# Altium footprint library micrel.PCBLIB: 2 footprints
Each footprint in its own frame and in the unit in brackets; x right, y up, seen from the top. Pads: shape width x height; smd on the part's side, far side on the other; paste and mask are expansions set on the pad; w line width, h text height; cw(c..) or ccw(c..) is an arc to the next point about the centre after c.
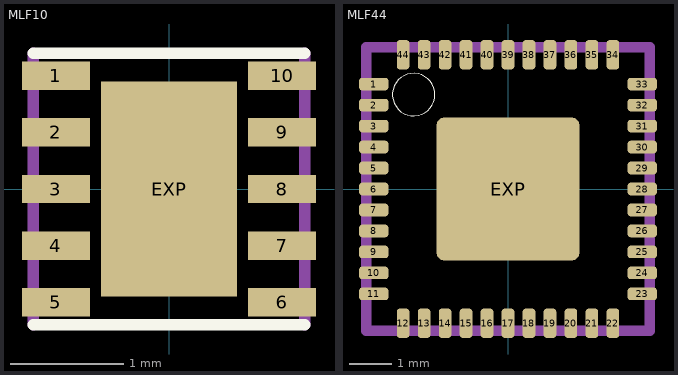
[diagram p0: the footprints below, top view; thin cyan lines are the x and y axes]

## MLF10 [mm]
pads (11):
  rect 0.6x0.25 smd: 1(-1,1) 2(-1,0.5) 3(-1,0) 4(-1,-0.5) 5(-1,-1) 6(1,-1) 7(1,-0.5) 8(1,0) 9(1,0.5) 10(1,1)
  rect 1.2x1.9 smd: EXP(0,0)
Top Overlay:
  lines w0.102: -1.2,-1.2 1.2,-1.2 ; -1.2,1.2 1.2,1.2
Top Paste:
  rectangle: -1.275,0.9 -0.725,1.1
  rectangle: -1.275,0.4 -0.725,0.6
  rectangle: -1.275,-0.1 -0.725,0.1
  rectangle: -1.275,-0.6 -0.725,-0.4
  rectangle: -1.275,-1.1 -0.725,-0.9
  region: 1.275,-0.9 0.725,-0.9 0.725,-1.1 1.275,-1.1
  region: 1.275,-0.4 0.725,-0.4 0.725,-0.6 1.275,-0.6
  region: 1.275,0.1 0.725,0.1 0.725,-0.1 1.275,-0.1
  region: 1.275,0.6 0.725,0.6 0.725,0.4 1.275,0.4
  region: 1.275,1.1 0.725,1.1 0.725,0.9 1.275,0.9
  rectangle: -0.525,-0.875 0.525,0.875
Top Solder:
  rectangle: -1.325,0.85 -0.675,1.15
  rectangle: -1.325,0.35 -0.675,0.65
  rectangle: -1.325,-0.15 -0.675,0.15
  rectangle: -1.325,-0.65 -0.675,-0.35
  rectangle: -1.325,-1.15 -0.675,-0.85
  region: 1.325,-0.85 0.675,-0.85 0.675,-1.15 1.325,-1.15
  region: 1.325,-0.35 0.675,-0.35 0.675,-0.65 1.325,-0.65
  region: 1.325,0.15 0.675,0.15 0.675,-0.15 1.325,-0.15
  region: 1.325,0.65 0.675,0.65 0.675,0.35 1.325,0.35
  region: 1.325,1.15 0.675,1.15 0.675,0.85 1.325,0.85
  rectangle: -0.625,-0.975 0.625,0.975
Mechanical 16:
  lines w0.102: -1.2,-1.2 -1.2,1.2 ; 1.2,-1.2 1.2,1.2

## MLF44 [mm]
pads (45):
  rrect50% 0.7x0.3 smd: 1(-3.2,2.5) 2(-3.2,2) 3(-3.2,1.5) 4(-3.2,1) 5(-3.2,0.5) 6(-3.2,0) 7(-3.2,-0.5) 8(-3.2,-1) 9(-3.2,-1.5) 10(-3.2,-2) 11(-3.2,-2.5) 23(3.2,-2.5) 24(3.2,-2) 25(3.2,-1.5) 26(3.2,-1) 27(3.2,-0.5) 28(3.2,0) 29(3.2,0.5) 30(3.2,1) 31(3.2,1.5) 32(3.2,2) 33(3.2,2.5)
  rrect50% 0.3x0.7 smd: 12(-2.5,-3.2) 13(-2,-3.2) 14(-1.5,-3.2) 15(-1,-3.2) 16(-0.5,-3.2) 17(0,-3.2) 18(0.5,-3.2) 19(1,-3.2) 20(1.5,-3.2) 21(2,-3.2) 22(2.5,-3.2) 34(2.5,3.2) 35(2,3.2) 36(1.5,3.2) 37(1,3.2) 38(0.5,3.2) 39(0,3.2) 40(-0.5,3.2) 41(-1,3.2) 42(-1.5,3.2) 43(-2,3.2) 44(-2.5,3.2)
  rrect10% 3.4x3.4 smd: EXP(0,0)
Top Overlay:
  circle w0: c-2.25,2.25 r0.505
Top Paste:
  rectangle: -3.525,2.375 -2.875,2.625
  rectangle: -3.525,1.875 -2.875,2.125
  rectangle: -3.525,1.375 -2.875,1.625
  rectangle: -3.525,0.875 -2.875,1.125
  rectangle: -3.525,0.375 -2.875,0.625
  rectangle: -3.525,-0.125 -2.875,0.125
  rectangle: -3.525,-0.625 -2.875,-0.375
  rectangle: -3.525,-1.125 -2.875,-0.875
  rectangle: -3.525,-1.625 -2.875,-1.375
  rectangle: -3.525,-2.125 -2.875,-1.875
  rectangle: -3.525,-2.625 -2.875,-2.375
  region: -2.375,-3.525 -2.375,-2.875 -2.625,-2.875 -2.625,-3.525
  region: -1.875,-3.525 -1.875,-2.875 -2.125,-2.875 -2.125,-3.525
  region: -1.375,-3.525 -1.375,-2.875 -1.625,-2.875 -1.625,-3.525
  region: -0.875,-3.525 -0.875,-2.875 -1.125,-2.875 -1.125,-3.525
  region: -0.375,-3.525 -0.375,-2.875 -0.625,-2.875 -0.625,-3.525
  region: 0.125,-3.525 0.125,-2.875 -0.125,-2.875 -0.125,-3.525
  region: 0.625,-3.525 0.625,-2.875 0.375,-2.875 0.375,-3.525
  region: 1.125,-3.525 1.125,-2.875 0.875,-2.875 0.875,-3.525
  region: 1.625,-3.525 1.625,-2.875 1.375,-2.875 1.375,-3.525
  region: 2.125,-3.525 2.125,-2.875 1.875,-2.875 1.875,-3.525
  region: 2.625,-3.525 2.625,-2.875 2.375,-2.875 2.375,-3.525
  region: 3.525,-2.375 2.875,-2.375 2.875,-2.625 3.525,-2.625
  region: 3.525,-1.875 2.875,-1.875 2.875,-2.125 3.525,-2.125
  region: 3.525,-1.375 2.875,-1.375 2.875,-1.625 3.525,-1.625
  region: 3.525,-0.875 2.875,-0.875 2.875,-1.125 3.525,-1.125
  region: 3.525,-0.375 2.875,-0.375 2.875,-0.625 3.525,-0.625
  region: 3.525,0.125 2.875,0.125 2.875,-0.125 3.525,-0.125
  region: 3.525,0.625 2.875,0.625 2.875,0.375 3.525,0.375
  region: 3.525,1.125 2.875,1.125 2.875,0.875 3.525,0.875
  region: 3.525,1.625 2.875,1.625 2.875,1.375 3.525,1.375
  region: 3.525,2.125 2.875,2.125 2.875,1.875 3.525,1.875
  region: 3.525,2.625 2.875,2.625 2.875,2.375 3.525,2.375
  region: 2.375,3.525 2.375,2.875 2.625,2.875 2.625,3.525
  region: 1.875,3.525 1.875,2.875 2.125,2.875 2.125,3.525
  region: 1.375,3.525 1.375,2.875 1.625,2.875 1.625,3.525
  region: 0.875,3.525 0.875,2.875 1.125,2.875 1.125,3.525
  region: 0.375,3.525 0.375,2.875 0.625,2.875 0.625,3.525
  region: -0.125,3.525 -0.125,2.875 0.125,2.875 0.125,3.525
  region: -0.625,3.525 -0.625,2.875 -0.375,2.875 -0.375,3.525
  region: -1.125,3.525 -1.125,2.875 -0.875,2.875 -0.875,3.525
  region: -1.625,3.525 -1.625,2.875 -1.375,2.875 -1.375,3.525
  region: -2.125,3.525 -2.125,2.875 -1.875,2.875 -1.875,3.525
  region: -2.625,3.525 -2.625,2.875 -2.375,2.875 -2.375,3.525
  rectangle: -1.375,-1.375 1.375,1.375
Top Solder:
  rectangle: -3.575,2.325 -2.825,2.675
  rectangle: -3.575,1.825 -2.825,2.175
  rectangle: -3.575,1.325 -2.825,1.675
  rectangle: -3.575,0.825 -2.825,1.175
  rectangle: -3.575,0.325 -2.825,0.675
  rectangle: -3.575,-0.175 -2.825,0.175
  rectangle: -3.575,-0.675 -2.825,-0.325
  rectangle: -3.575,-1.175 -2.825,-0.825
  rectangle: -3.575,-1.675 -2.825,-1.325
  rectangle: -3.575,-2.175 -2.825,-1.825
  rectangle: -3.575,-2.675 -2.825,-2.325
  region: -2.325,-3.575 -2.325,-2.825 -2.675,-2.825 -2.675,-3.575
  region: -1.825,-3.575 -1.825,-2.825 -2.175,-2.825 -2.175,-3.575
  region: -1.325,-3.575 -1.325,-2.825 -1.675,-2.825 -1.675,-3.575
  region: -0.825,-3.575 -0.825,-2.825 -1.175,-2.825 -1.175,-3.575
  region: -0.325,-3.575 -0.325,-2.825 -0.675,-2.825 -0.675,-3.575
  region: 0.175,-3.575 0.175,-2.825 -0.175,-2.825 -0.175,-3.575
  region: 0.675,-3.575 0.675,-2.825 0.325,-2.825 0.325,-3.575
  region: 1.175,-3.575 1.175,-2.825 0.825,-2.825 0.825,-3.575
  region: 1.675,-3.575 1.675,-2.825 1.325,-2.825 1.325,-3.575
  region: 2.175,-3.575 2.175,-2.825 1.825,-2.825 1.825,-3.575
  region: 2.675,-3.575 2.675,-2.825 2.325,-2.825 2.325,-3.575
  region: 3.575,-2.325 2.825,-2.325 2.825,-2.675 3.575,-2.675
  region: 3.575,-1.825 2.825,-1.825 2.825,-2.175 3.575,-2.175
  region: 3.575,-1.325 2.825,-1.325 2.825,-1.675 3.575,-1.675
  region: 3.575,-0.825 2.825,-0.825 2.825,-1.175 3.575,-1.175
  region: 3.575,-0.325 2.825,-0.325 2.825,-0.675 3.575,-0.675
  region: 3.575,0.175 2.825,0.175 2.825,-0.175 3.575,-0.175
  region: 3.575,0.675 2.825,0.675 2.825,0.325 3.575,0.325
  region: 3.575,1.175 2.825,1.175 2.825,0.825 3.575,0.825
  region: 3.575,1.675 2.825,1.675 2.825,1.325 3.575,1.325
  region: 3.575,2.175 2.825,2.175 2.825,1.825 3.575,1.825
  region: 3.575,2.675 2.825,2.675 2.825,2.325 3.575,2.325
  region: 2.325,3.575 2.325,2.825 2.675,2.825 2.675,3.575
  region: 1.825,3.575 1.825,2.825 2.175,2.825 2.175,3.575
  region: 1.325,3.575 1.325,2.825 1.675,2.825 1.675,3.575
  region: 0.825,3.575 0.825,2.825 1.175,2.825 1.175,3.575
  region: 0.325,3.575 0.325,2.825 0.675,2.825 0.675,3.575
  region: -0.175,3.575 -0.175,2.825 0.175,2.825 0.175,3.575
  region: -0.675,3.575 -0.675,2.825 -0.325,2.825 -0.325,3.575
  region: -1.175,3.575 -1.175,2.825 -0.825,2.825 -0.825,3.575
  region: -1.675,3.575 -1.675,2.825 -1.325,2.825 -1.325,3.575
  region: -2.175,3.575 -2.175,2.825 -1.825,2.825 -1.825,3.575
  region: -2.675,3.575 -2.675,2.825 -2.325,2.825 -2.325,3.575
  rectangle: -1.75,-1.875 1.75,1.75
Mechanical 16:
  rectangle: -3.5,2.375 -3,2.625
  rectangle: -3.5,1.875 -3,2.125
  rectangle: -3.5,1.375 -3,1.625
  rectangle: -3.5,0.875 -3,1.125
  rectangle: -3.5,0.375 -3,0.625
  rectangle: -3.5,-0.125 -3,0.125
  rectangle: -3.5,-0.625 -3,-0.375
  rectangle: -3.5,-1.125 -3,-0.875
  rectangle: -3.5,-1.625 -3,-1.375
  rectangle: -3.5,-2.125 -3,-1.875
  rectangle: -3.5,-2.625 -3,-2.375
  rectangle: -2.625,-3.5 -2.375,-3
  rectangle: -2.125,-3.5 -1.875,-3
  rectangle: -1.625,-3.5 -1.375,-3
  rectangle: -1.125,-3.5 -0.875,-3
  rectangle: -0.625,-3.5 -0.375,-3
  rectangle: -0.125,-3.5 0.125,-3
  rectangle: 0.375,-3.5 0.625,-3
  rectangle: 0.875,-3.5 1.125,-3
  rectangle: 1.375,-3.5 1.625,-3
  rectangle: 1.875,-3.5 2.125,-3
  rectangle: 2.375,-3.5 2.625,-3
  rectangle: 3,-2.625 3.5,-2.375
  rectangle: 3,-2.125 3.5,-1.875
  rectangle: 3,-1.625 3.5,-1.375
  rectangle: 3,-1.125 3.5,-0.875
  rectangle: 3,-0.625 3.5,-0.375
  rectangle: 3,-0.125 3.5,0.125
  rectangle: 3,0.375 3.5,0.625
  rectangle: 3,0.875 3.5,1.125
  rectangle: 3,1.375 3.5,1.625
  rectangle: 3,1.875 3.5,2.125
  rectangle: 3,2.375 3.5,2.625
  rectangle: 2.375,3 2.625,3.5
  rectangle: 1.875,3 2.125,3.5
  rectangle: 1.375,3 1.625,3.5
  rectangle: 0.875,3 1.125,3.5
  rectangle: 0.375,3 0.625,3.5
  rectangle: -0.125,3 0.125,3.5
  rectangle: -0.625,3 -0.375,3.5
  rectangle: -1.125,3 -0.875,3.5
  rectangle: -1.625,3 -1.375,3.5
  rectangle: -2.125,3 -1.875,3.5
  rectangle: -2.625,3 -2.375,3.5
  lines w0.254: -3.375,-3.375 3.375,-3.375 3.375,3.375 -3.375,3.375 -3.375,-3.375